# Altium schematic symbol library Connectors.SchLib: 7 symbols
Pins are listed as number, name and electrical type; pins without a type are passive.

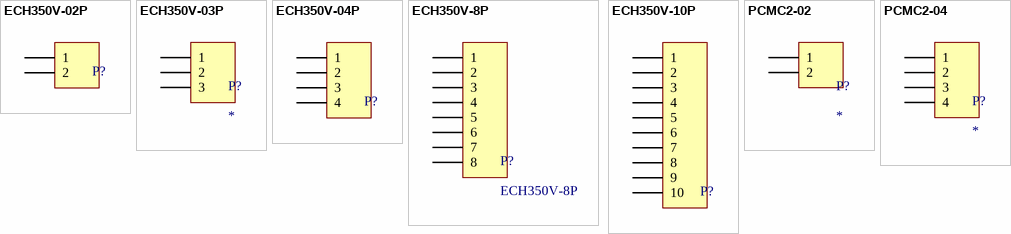
[diagram p0: symbols ECH350V-02P to PCMC2-04]

## ECH350V-02P
designator P?  (value not drawn)
footprint ECH350V-02P
pins: 1, 2

## ECH350V-03P
designator P?
footprint ECH350V-03P
pins: 1, 2, 3

## ECH350V-04P
designator P?  (value not drawn)
footprint ECH350V-04P
pins: 1, 2, 3, 4

## ECH350V-8P
designator P?
footprint ECH350V-08P
pins: 1, 2, 3, 4, 5, 6, 7, 8

## ECH350V-10P
designator P?  (value not drawn)
footprint ECH350V-10P
pins: 1, 2, 3, 4, 5, 6, 7, 8, 9, 10

## PCMC2-02
designator P?
footprint PCMC2-02 (2.54mm pitch; wire to board connector; 2 Position; 180°)
footprint PCMC2-02 (2.54mm pitch; wire to board connector; 2 Position; 180°)
pins: 1, 2

## PCMC2-04
designator P?
footprint PCMC2-04 (2.54mm pitch; wire to board connector; 4 Position; 180°)
footprint PCMC2-04 (2.54mm pitch; wire to board connector; 4 Position; 180°)
pins: 1, 2, 3, 4